# Altium footprint library SSOP20.PcbLib: 1 footprints
Each footprint in its own frame and in the unit in brackets; x right, y up, seen from the top. Pads: shape width x height; smd on the part's side, far side on the other; paste and mask are expansions set on the pad; w line width, h text height; cw(c..) or ccw(c..) is an arc to the next point about the centre after c.
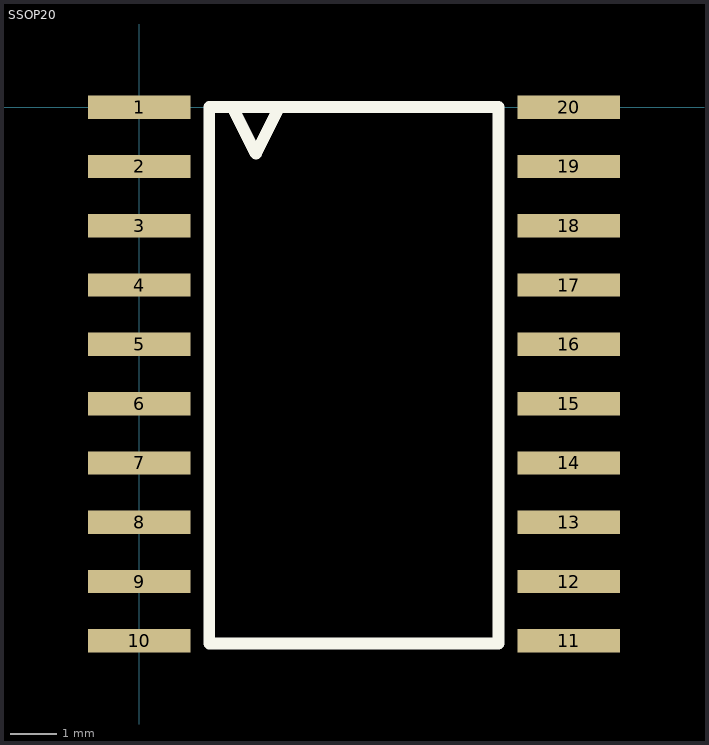
[diagram p0: the footprint, top view; thin cyan lines are the x and y axes]

## SSOP20 [mil]
pads (20):
  rect 86.6x19.67 smd: 1(0,0) 2(0,-50) 3(0,-100) 4(0,-150) 5(0,-200) 6(0,-250) 7(0,-300) 8(0,-350) 9(0,-400) 10(0,-450) 11(362.2,-450) 12(362.2,-400) 13(362.2,-350) 14(362.2,-300) 15(362.2,-250) 16(362.2,-200) 17(362.2,-150) 18(362.2,-100) 19(362.2,-50) 20(362.2,0)
Top Overlay:
  lines w10: 59,-452.33 302.87,-452.33 302.87,0 59,0 59,-452.33 ; 78.67,0 98.33,-39.33 118,0 78.67,0